# Altium schematic symbol library WL-SIMW.SchLib: 4 symbols
Pins are listed as number, name and electrical type; pins without a type are passive.

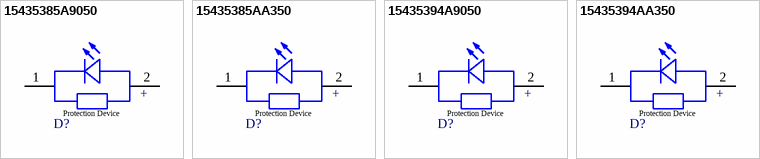
[diagram p0: symbols 15435385A9050 to 15435394AA350]

## 15435385A9050
designator D?, comment Infrared, 2V, 90°  (value not drawn)
WL-SIMW SMT Infrared Ceramic Waterclear, size 3535, Infrared, 2V, 90°; Manufacturer Part Number: 15435385A9050; Manufacturer: Wurth Elektronik; Case/Size Code: 3535; Centroid Wavelength: 850nm; Chip Technology: AlGaAs; Peak Wavelength: 855nm; Radiant Intensity: 350mW/sr; Category: Infrared LEDs; Match Code: WL-SIMW; ComponentLink1Description: Website Link; ComponentLink1URL: https://www.we-online.com/redexpert/article/15435385A9050?ad; ComponentLink2Description: Datasheet Link; ComponentLink2URL: https://www.we-online.com/redexpert/spec/15435385A9050?ad; Mount: Surface Mount; Operating Temperature Max: 85°C; Operating Temperature Min: -40°C; Packaging: Tape and Reel; Length: 3.4mm; Width: 3.4mm; Height: 2.56mm; Emitting Color: Infrared; Forward Voltage: 2V; Viewing Angle: 90°
footprint WL-SIMW_3535_L3.4W3.4H2.56
simulation model 3535_15435385A9050
pins: 1 K, 2 A
text: +; Protection Device

## 15435385AA350
designator D?, comment Infrared, 2V, 130°  (value not drawn)
WL-SIMW SMT Infrared Ceramic Waterclear, size 3535, Infrared, 2V, 130°; Manufacturer Part Number: 15435385AA350; Manufacturer: Wurth Elektronik; Case/Size Code: 3535; Centroid Wavelength: 850nm; Chip Technology: AlGaAs; Peak Wavelength: 855nm; Radiant Intensity: 250mW/sr; Category: Infrared LEDs; Match Code: WL-SIMW; ComponentLink1Description: Website Link; ComponentLink1URL: https://www.we-online.com/redexpert/article/15435385AA350?ad; ComponentLink2Description: Datasheet Link; ComponentLink2URL: https://www.we-online.com/redexpert/spec/15435385AA350?ad; Mount: Surface Mount; Operating Temperature Max: 85°C; Operating Temperature Min: -40°C; Packaging: Tape and Reel; Length: 3.4mm; Width: 3.4mm; Height: 2.1mm; Emitting Color: Infrared; Forward Voltage: 2V; Viewing Angle: 130°
footprint WL-SIMW_3535_L3.4W3.4H2.1
simulation model 3535_15435385AA350
pins: 1 K, 2 A
text: +; Protection Device

## 15435394A9050
designator D?, comment Infrared, 1.9V, 90°  (value not drawn)
WL-SIMW SMT Infrared Ceramic Waterclear, size 3535, Infrared, 1.9V, 90°; Manufacturer Part Number: 15435394A9050; Manufacturer: Wurth Elektronik; Case/Size Code: 3535; Centroid Wavelength: 940nm; Chip Technology: AlGaAs; Peak Wavelength: 945nm; Radiant Intensity: 300mW/sr; Category: Infrared LEDs; Match Code: WL-SIMW; ComponentLink1Description: Website Link; ComponentLink1URL: https://www.we-online.com/redexpert/article/15435394A9050?ad; ComponentLink2Description: Datasheet Link; ComponentLink2URL: https://www.we-online.com/redexpert/spec/15435394A9050?ad; Mount: Surface Mount; Operating Temperature Max: 85°C; Operating Temperature Min: -40°C; Packaging: Tape and Reel; Length: 3.4mm; Width: 3.4mm; Height: 2.56mm; Emitting Color: Infrared; Forward Voltage: 1.9V; Viewing Angle: 90°
footprint WL-SIMW_3535_L3.4W3.4H2.56
simulation model 3535_15435394A9050
pins: 1 K, 2 A
text: +; Protection Device

## 15435394AA350
designator D?, comment Infrared, 1.9V, 130°  (value not drawn)
WL-SIMW SMT Infrared Ceramic Waterclear, size 3535, Infrared, 1.9V, 130°; Manufacturer Part Number: 15435394AA350; Manufacturer: Wurth Elektronik; Case/Size Code: 3535; Centroid Wavelength: 940nm; Chip Technology: AlGaAs; Peak Wavelength: 945nm; Radiant Intensity: 220mW/sr; Category: Infrared LEDs; Match Code: WL-SIMW; ComponentLink1Description: Website Link; ComponentLink1URL: https://www.we-online.com/redexpert/article/15435394AA350?ad; ComponentLink2Description: Datasheet Link; ComponentLink2URL: https://www.we-online.com/redexpert/spec/15435394AA350?ad; Mount: Surface Mount; Operating Temperature Max: 85°C; Operating Temperature Min: -40°C; Packaging: Tape and Reel; Length: 3.4mm; Width: 3.4mm; Height: 2.1mm; Emitting Color: Infrared; Forward Voltage: 1.9V; Viewing Angle: 130°
footprint WL-SIMW_3535_L3.4W3.4H2.1
simulation model 3535_15435394AA350
pins: 1 K, 2 A
text: +; Protection Device